# EAGLE library part MODULE_CONTROLLER (library signpost)
Controller module for signpost
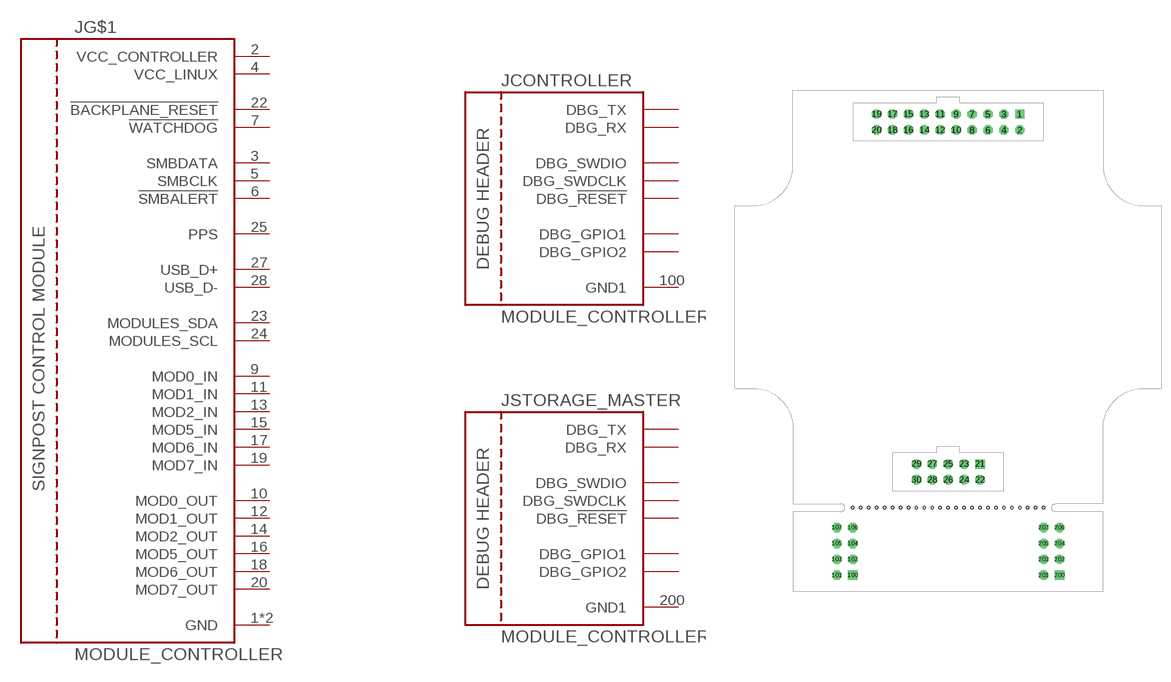
[diagram p9: symbol with the pads of MODULE_CONTROLLER; footprint MODULE_CONTROLLER]

Designator prefix J; gates G$1=HEADER_CONTROL CONTROLLER=HEADER_DEBUG STORAGE_MASTER=HEADER_DEBUG

## MODULE_CONTROLLER (DIGIKEY: S9172-ND , S9169-ND , S2221EC-04-ND , S2221EC-04-ND)  [MODULE_CONTROLLER]
1  G$1:GND
2  G$1:VCC_CONTROLLER
3  G$1:SMBDATA
4  G$1:VCC_LINUX
5  G$1:SMBCLK
6  G$1:!SMBALERT
7  G$1:!WATCHDOG
9  G$1:MOD0_IN
10  G$1:MOD0_OUT
11  G$1:MOD1_IN
12  G$1:MOD1_OUT
13  G$1:MOD2_IN
14  G$1:MOD2_OUT
15  G$1:MOD5_IN
16  G$1:MOD5_OUT
17  G$1:MOD6_IN
18  G$1:MOD6_OUT
19  G$1:MOD7_IN
20  G$1:MOD7_OUT
21  G$1:GND
22  G$1:!BACKPLANE_RESET
23  G$1:MODULES_SDA
24  G$1:MODULES_SCL
25  G$1:PPS
27  G$1:USB_D+
28  G$1:USB_D-
100  CONTROLLER:GND1
101  CONTROLLER:DBG_GPIO1
102  CONTROLLER:DBG_TX
103  CONTROLLER:DBG_RX
104  CONTROLLER:DBG_GPIO2
105  CONTROLLER:DBG_!RESET
106  CONTROLLER:DBG_SWDCLK
107  CONTROLLER:DBG_SWDIO
200  STORAGE_MASTER:GND1
201  STORAGE_MASTER:DBG_GPIO1
202  STORAGE_MASTER:DBG_TX
203  STORAGE_MASTER:DBG_RX
204  STORAGE_MASTER:DBG_GPIO2
205  STORAGE_MASTER:DBG_!RESET
206  STORAGE_MASTER:DBG_SWDCLK
207  STORAGE_MASTER:DBG_SWDIO

## Footprint MODULE_CONTROLLER (pad centres in mm)
drill 0.991 square: 1 11.43,29.21; 100 -15.24,-44.45; 200 17.78,-44.45
drill 0.991 octagon: 2 11.43,26.67; 3 8.89,29.21; 4 8.89,26.67; 5 6.35,29.21; 6 6.35,26.67; 7 3.81,29.21; 8 3.81,26.67; 9 1.27,29.21; 10 1.27,26.67; 11 -1.27,29.21; 12 -1.27,26.67; 13 -3.81,29.21; 14 -3.81,26.67; 15 -6.35,29.21; 16 -6.35,26.67; 17 -8.89,29.21; 18 -8.89,26.67; 19 -11.43,29.21; 20 -11.43,26.67; 101 -17.78,-44.45; 102 -15.24,-41.91; 103 -17.78,-41.91; 104 -15.24,-39.37; 105 -17.78,-39.37; 106 -15.24,-36.83; 107 -17.78,-36.83; 201 15.24,-44.45; 202 17.78,-41.91; 203 15.24,-41.91; 204 17.78,-39.37; 205 15.24,-39.37; 206 17.78,-36.83; 207 15.24,-36.83
drill 1.016 square: 21 5.08,-26.67
drill 1.016 octagon: 22 5.08,-29.21; 23 2.54,-26.67; 24 2.54,-29.21; 25 0,-26.67; 26 0,-29.21; 27 -2.54,-26.67; 28 -2.54,-29.21; 29 -5.08,-26.67; 30 -5.08,-29.21
hole 0.381 at 0,-33.655
hole 0.381 at 1.27,-33.655
hole 0.381 at -1.27,-33.655
hole 0.381 at 3.81,-33.655
hole 0.381 at 5.08,-33.655
hole 0.381 at 2.54,-33.655
hole 0.381 at -3.81,-33.655
hole 0.381 at -2.54,-33.655
hole 0.381 at -5.08,-33.655
hole 0.381 at 11.43,-33.655
hole 0.381 at 12.7,-33.655
hole 0.381 at 10.16,-33.655
hole 0.381 at 15.24,-33.655
hole 0.381 at 13.97,-33.655
hole 0.381 at 7.62,-33.655
hole 0.381 at 8.89,-33.655
hole 0.381 at 6.35,-33.655
hole 0.381 at -11.43,-33.655
hole 0.381 at -10.16,-33.655
hole 0.381 at -12.7,-33.655
hole 0.381 at -7.62,-33.655
hole 0.381 at -6.35,-33.655
hole 0.381 at -8.89,-33.655
hole 0.381 at -15.24,-33.655
hole 0.381 at -13.97,-33.655